# EAGLE library part ZORROII (library Amiga)
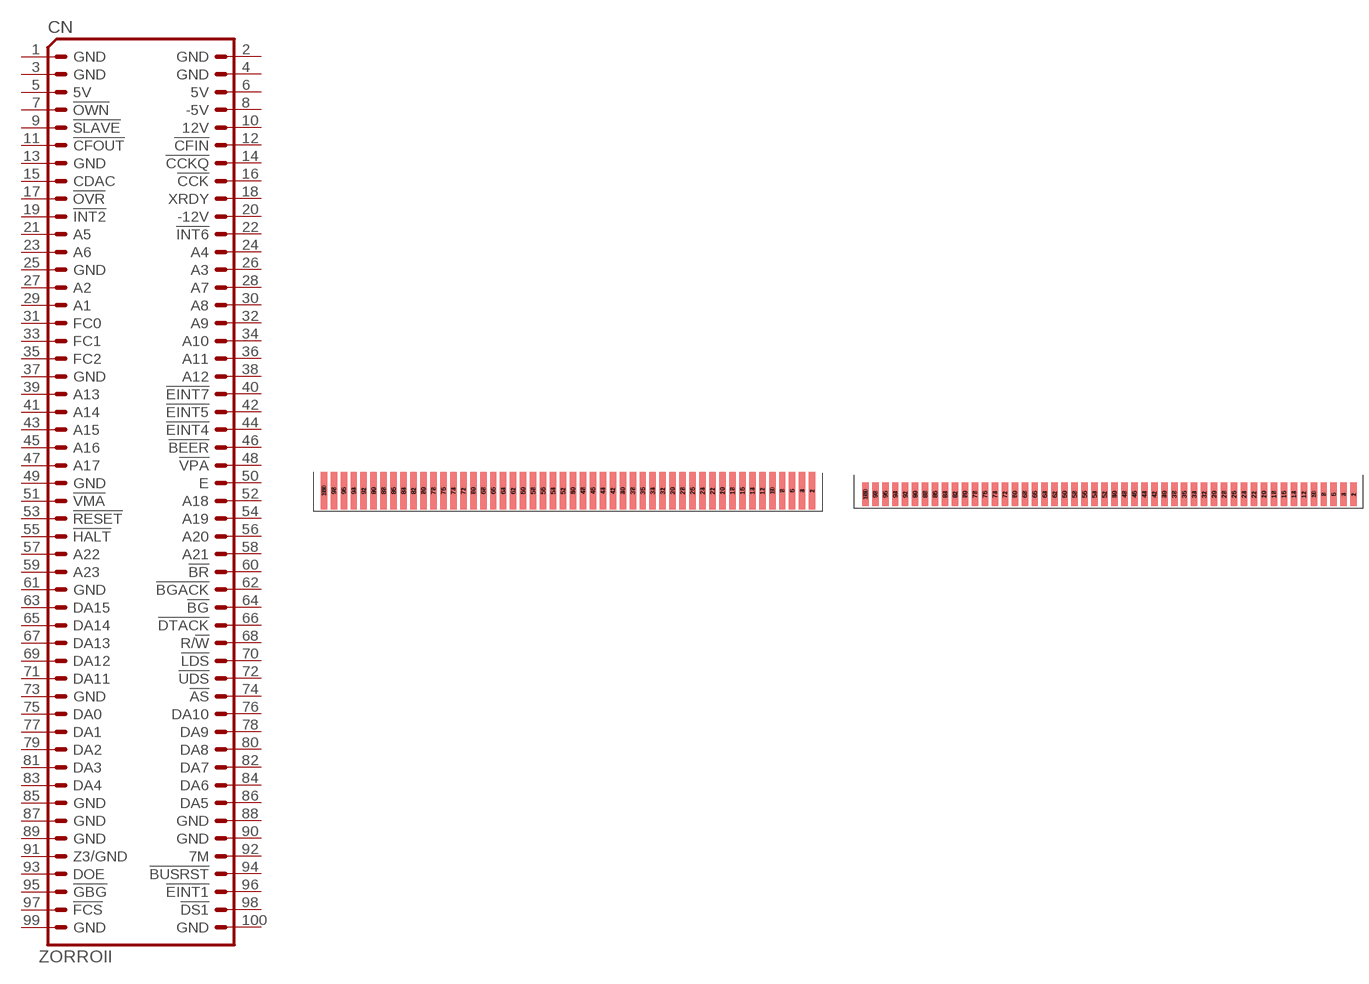
[diagram p12: symbol with the pads of LKONT_50; footprints LKONT_50, LKONT_50_2]

Designator prefix CN

## ZORROII_EDGE_FULL_HEIGHT  [LKONT_50]
1  GND  pas
2  GND  pas
3  GND  pas
4  GND  pas
5  5V  pas
6  5V  pas
7  !OWN!  pas
8  -5V  pas
9  !SLAVE!  pas
10  12V  pas
11  !CFOUT!  pas
12  !CFIN!  pas
13  GND  pas
14  !CCKQ!  pas
15  CDAC  pas
16  !CCK!  pas
17  !OVR!  pas
18  XRDY  pas
19  !INT2!  pas
20  -12V  pas
21  A5  pas
22  !INT6!  pas
23  A6  pas
24  A4  pas
25  GND  pas
26  A3  pas
27  A2  pas
28  A7  pas
29  A1  pas
30  A8  pas
31  FC0  pas
32  A9  pas
33  FC1  pas
34  A10  pas
35  FC2  pas
36  A11  pas
37  GND  pas
38  A12  pas
39  A13  pas
40  !EINT7!  pas
41  A14  pas
42  !EINT5!  pas
43  A15  pas
44  !EINT4!  pas
45  A16  pas
46  !BEER!  pas
47  A17  pas
48  !VPA!  pas
49  GND  pas
50  E  pas
51  !VMA!  pas
52  A18  pas
53  !RESET!  pas
54  A19  pas
55  !HALT!  pas
56  A20  pas
57  A22  pas
58  A21  pas
59  A23  pas
60  !BR!  pas
61  GND  pas
62  !BGACK!  pas
63  DA15  pas
64  !BG!  pas
65  DA14  pas
66  !DTACK!  pas
67  DA13  pas
68  R/!W!  pas
69  DA12  pas
70  !LDS!  pas
71  DA11  pas
72  !UDS!  pas
73  GND  pas
74  !AS!  pas
75  DA0  pas
76  DA10  pas
77  DA1  pas
78  DA9  pas
79  DA2  pas
80  DA8  pas
81  DA3  pas
82  DA7  pas
83  DA4  pas
84  DA6  pas
85  GND  pas
86  DA5  pas
87  GND  pas
88  GND  pas
89  GND  pas
90  GND  pas
91  Z3/GND  pas
92  7M  pas
93  DOE  pas
94  !BUSRST!  pas
95  !GBG!  pas
96  !EINT1!  pas
97  !FCS!  pas
98  !DS1!  pas
99  GND  pas
100  GND  pas

## ZORROII_EDGE_SMALL_HEIGHT  [LKONT_50_2]
Pads as for LKONT_50

## ZORROII_SLOT  [SLOT_100]
Pads as for LKONT_50

## ZORROII_SLOT_SMALL_HOLES  [SLOT_100_S]
Pads as for LKONT_50

## ZORROII_EDGE_ROUND_CONTACTS  [LKONT_50_R]
Pads as for LKONT_50

## ZORROII_EDGE_WITH_OUTLINE  [ZORRO]
Pads as for LKONT_50

## Footprint LKONT_50 (pad centres in mm)
smd 1.65 x 9.5 bottom: 1 127,5.334; 3 124.46,5.334; 5 121.92,5.334; 7 119.38,5.334; 9 116.84,5.334; 11 114.3,5.334; 13 111.76,5.334; 15 109.22,5.334; 17 106.68,5.334; 19 104.14,5.334; 21 101.6,5.334; 23 99.06,5.334; 25 96.52,5.334; 27 93.98,5.334; 29 91.44,5.334; 31 88.9,5.334; 33 86.36,5.334; 35 83.82,5.334; 37 81.28,5.334; 39 78.74,5.334; 41 76.2,5.334; 43 73.66,5.334; 45 71.12,5.334; 47 68.58,5.334; 49 66.04,5.334; 51 63.5,5.334; 53 60.96,5.334; 55 58.42,5.334; 57 55.88,5.334; 59 53.34,5.334; 61 50.8,5.334; 63 48.26,5.334; 65 45.72,5.334; 67 43.18,5.334; 69 40.64,5.334; 71 38.1,5.334; 73 35.56,5.334; 75 33.02,5.334; 77 30.48,5.334; 79 27.94,5.334; 81 25.4,5.334; 83 22.86,5.334; 85 20.32,5.334; 87 17.78,5.334; 89 15.24,5.334; 91 12.7,5.334; 93 10.16,5.334; 95 7.62,5.334; 97 5.08,5.334; 99 2.54,5.334
smd 1.65 x 9.5: 2 127,5.334; 4 124.46,5.334; 6 121.92,5.334; 8 119.38,5.334; 10 116.84,5.334; 12 114.3,5.334; 14 111.76,5.334; 16 109.22,5.334; 18 106.68,5.334; 20 104.14,5.334; 22 101.6,5.334; 24 99.06,5.334; 26 96.52,5.334; 28 93.98,5.334; 30 91.44,5.334; 32 88.9,5.334; 34 86.36,5.334; 36 83.82,5.334; 38 81.28,5.334; 40 78.74,5.334; 42 76.2,5.334; 44 73.66,5.334; 46 71.12,5.334; 48 68.58,5.334; 50 66.04,5.334; 52 63.5,5.334; 54 60.96,5.334; 56 58.42,5.334; 58 55.88,5.334; 60 53.34,5.334; 62 50.8,5.334; 64 48.26,5.334; 66 45.72,5.334; 68 43.18,5.334; 70 40.64,5.334; 72 38.1,5.334; 74 35.56,5.334; 76 33.02,5.334; 78 30.48,5.334; 80 27.94,5.334; 82 25.4,5.334; 84 22.86,5.334; 86 20.32,5.334; 88 17.78,5.334; 90 15.24,5.334; 92 12.7,5.334; 94 10.16,5.334; 96 7.62,5.334; 98 5.08,5.334; 100 2.54,5.334

## Footprint LKONT_50_2 (pad centres in mm)
smd 1.65 x 6 bottom: 1 127,3.619; 3 124.46,3.619; 5 121.92,3.619; 7 119.38,3.619; 9 116.84,3.619; 11 114.3,3.619; 13 111.76,3.619; 15 109.22,3.619; 17 106.68,3.619; 19 104.14,3.619; 21 101.6,3.619; 23 99.06,3.619; 25 96.52,3.619; 27 93.98,3.619; 29 91.44,3.619; 31 88.9,3.619; 33 86.36,3.619; 35 83.82,3.619; 37 81.28,3.619; 39 78.74,3.619; 41 76.2,3.619; 43 73.66,3.619; 45 71.12,3.619; 47 68.58,3.619; 49 66.04,3.619; 51 63.5,3.619; 53 60.96,3.619; 55 58.42,3.619; 57 55.88,3.619; 59 53.34,3.619; 61 50.8,3.619; 63 48.26,3.619; 65 45.72,3.619; 67 43.18,3.619; 69 40.64,3.619; 71 38.1,3.619; 73 35.56,3.619; 75 33.02,3.619; 77 30.48,3.619; 79 27.94,3.619; 81 25.4,3.619; 83 22.86,3.619; 85 20.32,3.619; 87 17.78,3.619; 89 15.24,3.619; 91 12.7,3.619; 93 10.16,3.619; 95 7.62,3.619; 97 5.08,3.619; 99 2.54,3.619
smd 1.65 x 6: 2 127,3.619; 4 124.46,3.619; 6 121.92,3.619; 8 119.38,3.619; 10 116.84,3.619; 12 114.3,3.619; 14 111.76,3.619; 16 109.22,3.619; 18 106.68,3.619; 20 104.14,3.619; 22 101.6,3.619; 24 99.06,3.619; 26 96.52,3.619; 28 93.98,3.619; 30 91.44,3.619; 32 88.9,3.619; 34 86.36,3.619; 36 83.82,3.619; 38 81.28,3.619; 40 78.74,3.619; 42 76.2,3.619; 44 73.66,3.619; 46 71.12,3.619; 48 68.58,3.619; 50 66.04,3.619; 52 63.5,3.619; 54 60.96,3.619; 56 58.42,3.619; 58 55.88,3.619; 60 53.34,3.619; 62 50.8,3.619; 64 48.26,3.619; 66 45.72,3.619; 68 43.18,3.619; 70 40.64,3.619; 72 38.1,3.619; 74 35.56,3.619; 76 33.02,3.619; 78 30.48,3.619; 80 27.94,3.619; 82 25.4,3.619; 84 22.86,3.619; 86 20.32,3.619; 88 17.78,3.619; 90 15.24,3.619; 92 12.7,3.619; 94 10.16,3.619; 96 7.62,3.619; 98 5.08,3.619; 100 2.54,3.619

## Footprint SLOT_100 (pad centres in mm)
drill 0.9 pad 1.5: 1 -59.69,-2.54
drill 0.9 pad 1.5 octagon: 2 -59.69,2.54; 3 -57.15,-2.54; 4 -57.15,2.54; 5 -54.61,-2.54; 6 -54.61,2.54; 7 -52.07,-2.54; 8 -52.07,2.54; 9 -49.53,-2.54; 10 -49.53,2.54; 11 -46.99,-2.54; 12 -46.99,2.54; 13 -44.45,-2.54; 14 -44.45,2.54; 15 -41.91,-2.54; 16 -41.91,2.54; 17 -39.37,-2.54; 18 -39.37,2.54; 19 -36.83,-2.54; 20 -36.83,2.54; 21 -34.29,-2.54; 22 -34.29,2.54; 23 -31.75,-2.54; 24 -31.75,2.54; 25 -29.21,-2.54; 26 -29.21,2.54; 27 -26.67,-2.54; 28 -26.67,2.54; 29 -24.13,-2.54; 30 -24.13,2.54; 31 -21.59,-2.54; 32 -21.59,2.54; 33 -19.05,-2.54; 34 -19.05,2.54; 35 -16.51,-2.54; 36 -16.51,2.54; 37 -13.97,-2.54; 38 -13.97,2.54; 39 -11.43,-2.54; 40 -11.43,2.54; 41 -8.89,-2.54; 42 -8.89,2.54; 43 -6.35,-2.54; 44 -6.35,2.54; 45 -3.81,-2.54; 46 -3.81,2.54; 47 -1.27,-2.54; 48 -1.27,2.54; 49 1.27,-2.54; 50 1.27,2.54; 51 3.81,-2.54; 52 3.81,2.54; 53 6.35,-2.54; 54 6.35,2.54; 55 8.89,-2.54; 56 8.89,2.54; 57 11.43,-2.54; 58 11.43,2.54; 59 13.97,-2.54; 60 13.97,2.54; 61 16.51,-2.54; 62 16.51,2.54; 63 19.05,-2.54; 64 19.05,2.54; 65 21.59,-2.54; 66 21.59,2.54; 67 24.13,-2.54; 68 24.13,2.54; 69 26.67,-2.54; 70 26.67,2.54; 71 29.21,-2.54; 72 29.21,2.54; 73 31.75,-2.54; 74 31.75,2.54; 75 34.29,-2.54; 76 34.29,2.54; 77 36.83,-2.54; 78 36.83,2.54; 79 39.37,-2.54; 80 39.37,2.54; 81 41.91,-2.54; 82 41.91,2.54; 83 44.45,-2.54; 84 44.45,2.54; 85 46.99,-2.54; 86 46.99,2.54; 87 49.53,-2.54; 88 49.53,2.54; 89 52.07,-2.54; 90 52.07,2.54; 91 54.61,-2.54; 92 54.61,2.54; 93 57.15,-2.54; 94 57.15,2.54; 95 59.69,-2.54; 96 59.69,2.54; 97 62.23,-2.54; 98 62.23,2.54; 99 64.77,-2.54; 100 64.77,2.54

## Footprint SLOT_100_S (pad centres in mm)
drill 0.9 pad 1.397: 1 -60.96,-2.54
drill 0.9 pad 1.397 octagon: 2 -60.96,2.54; 3 -58.42,-2.54; 4 -58.42,2.54; 5 -55.88,-2.54; 6 -55.88,2.54; 7 -53.34,-2.54; 8 -53.34,2.54; 9 -50.8,-2.54; 10 -50.8,2.54; 11 -48.26,-2.54; 12 -48.26,2.54; 13 -45.72,-2.54; 14 -45.72,2.54; 15 -43.18,-2.54; 16 -43.18,2.54; 17 -40.64,-2.54; 18 -40.64,2.54; 19 -38.1,-2.54; 20 -38.1,2.54; 21 -35.56,-2.54; 22 -35.56,2.54; 23 -33.02,-2.54; 24 -33.02,2.54; 25 -30.48,-2.54; 26 -30.48,2.54; 27 -27.94,-2.54; 28 -27.94,2.54; 29 -25.4,-2.54; 30 -25.4,2.54; 31 -22.86,-2.54; 32 -22.86,2.54; 33 -20.32,-2.54; 34 -20.32,2.54; 35 -17.78,-2.54; 36 -17.78,2.54; 37 -15.24,-2.54; 38 -15.24,2.54; 39 -12.7,-2.54; 40 -12.7,2.54; 41 -10.16,-2.54; 42 -10.16,2.54; 43 -7.62,-2.54; 44 -7.62,2.54; 45 -5.08,-2.54; 46 -5.08,2.54; 47 -2.54,-2.54; 48 -2.54,2.54; 49 0,-2.54; 50 0,2.54; 51 2.54,-2.54; 52 2.54,2.54; 53 5.08,-2.54; 54 5.08,2.54; 55 7.62,-2.54; 56 7.62,2.54; 57 10.16,-2.54; 58 10.16,2.54; 59 12.7,-2.54; 60 12.7,2.54; 61 15.24,-2.54; 62 15.24,2.54; 63 17.78,-2.54; 64 17.78,2.54; 65 20.32,-2.54; 66 20.32,2.54; 67 22.86,-2.54; 68 22.86,2.54; 69 25.4,-2.54; 70 25.4,2.54; 71 27.94,-2.54; 72 27.94,2.54; 73 30.48,-2.54; 74 30.48,2.54; 75 33.02,-2.54; 76 33.02,2.54; 77 35.56,-2.54; 78 35.56,2.54; 79 38.1,-2.54; 80 38.1,2.54; 81 40.64,-2.54; 82 40.64,2.54; 83 43.18,-2.54; 84 43.18,2.54; 85 45.72,-2.54; 86 45.72,2.54; 87 48.26,-2.54; 88 48.26,2.54; 89 50.8,-2.54; 90 50.8,2.54; 91 53.34,-2.54; 92 53.34,2.54; 93 55.88,-2.54; 94 55.88,2.54; 95 58.42,-2.54; 96 58.42,2.54; 97 60.96,-2.54; 98 60.96,2.54; 99 63.5,-2.54; 100 63.5,2.54

## Footprint LKONT_50_R (pad centres in mm)
smd 1.27 x 7.62 bottom: 1 64.77,0; 3 62.23,0; 5 59.69,0; 7 57.15,0; 9 54.61,0; 11 52.07,0; 13 49.53,0; 15 46.99,0; 17 44.45,0; 19 41.91,0; 21 39.37,0; 23 36.83,0; 25 34.29,0; 27 31.75,0; 29 29.21,0; 31 26.67,0; 33 24.13,0; 35 21.59,0; 37 19.05,0; 39 16.51,0; 41 13.97,0; 43 11.43,0; 45 8.89,0; 47 6.35,0; 49 3.81,0; 51 1.27,0; 53 -1.27,0; 55 -3.81,0; 57 -6.35,0; 59 -8.89,0; 61 -11.43,0; 63 -13.97,0; 65 -16.51,0; 67 -19.05,0; 69 -21.59,0; 71 -24.13,0; 73 -26.67,0; 75 -29.21,0; 77 -31.75,0; 79 -34.29,0; 81 -36.83,0; 83 -39.37,0; 85 -41.91,0; 87 -44.45,0; 89 -46.99,0; 91 -49.53,0; 93 -52.07,0; 95 -54.61,0; 97 -57.15,0; 99 -59.69,0
smd 1.27 x 7.62: 2 64.77,0; 4 62.23,0; 6 59.69,0; 8 57.15,0; 10 54.61,0; 12 52.07,0; 14 49.53,0; 16 46.99,0; 18 44.45,0; 20 41.91,0; 22 39.37,0; 24 36.83,0; 26 34.29,0; 28 31.75,0; 30 29.21,0; 32 26.67,0; 34 24.13,0; 36 21.59,0; 38 19.05,0; 40 16.51,0; 42 13.97,0; 44 11.43,0; 46 8.89,0; 48 6.35,0; 50 3.81,0; 52 1.27,0; 54 -1.27,0; 56 -3.81,0; 58 -6.35,0; 60 -8.89,0; 62 -11.43,0; 64 -13.97,0; 66 -16.51,0; 68 -19.05,0; 70 -21.59,0; 72 -24.13,0; 74 -26.67,0; 76 -29.21,0; 78 -31.75,0; 80 -34.29,0; 82 -36.83,0; 84 -39.37,0; 86 -41.91,0; 88 -44.45,0; 90 -46.99,0; 92 -49.53,0; 94 -52.07,0; 96 -54.61,0; 98 -57.15,0; 100 -59.69,0

## Footprint ZORRO (pad centres in mm)
ZORRO PIC small Plug-In Card for the Amiga Zorro bus
smd 1.524 x 6.477 bottom: 1 130.625,-3.175; 3 128.085,-3.175; 5 125.545,-3.175; 7 123.005,-3.175; 9 120.465,-3.175; 11 117.925,-3.175; 13 115.385,-3.175; 15 112.845,-3.175; 17 110.305,-3.175; 19 107.765,-3.175; 21 105.225,-3.175; 23 102.685,-3.175; 25 100.145,-3.175; 27 97.605,-3.175; 29 95.065,-3.175; 31 92.525,-3.175; 33 89.985,-3.175; 35 87.445,-3.175; 37 84.905,-3.175; 39 82.365,-3.175; 41 79.825,-3.175; 43 77.285,-3.175; 45 74.745,-3.175; 47 72.205,-3.175; 49 69.665,-3.175; 51 67.125,-3.175; 53 64.585,-3.175; 55 62.045,-3.175; 57 59.505,-3.175; 59 56.965,-3.175; 61 54.425,-3.175; 63 51.885,-3.175; 65 49.345,-3.175; 67 46.805,-3.175; 69 44.265,-3.175; 71 41.725,-3.175; 73 39.185,-3.175; 75 36.645,-3.175; 77 34.105,-3.175; 79 31.565,-3.175; 81 29.025,-3.175; 83 26.485,-3.175; 85 23.945,-3.175; 87 21.405,-3.175; 89 18.865,-3.175; 91 16.325,-3.175; 93 13.785,-3.175; 95 11.245,-3.175; 97 8.705,-3.175; 99 6.165,-3.175
smd 1.524 x 6.477: 2 130.625,-3.175; 4 128.085,-3.175; 6 125.545,-3.175; 8 123.005,-3.175; 10 120.465,-3.175; 12 117.925,-3.175; 14 115.385,-3.175; 16 112.845,-3.175; 18 110.305,-3.175; 20 107.765,-3.175; 22 105.225,-3.175; 24 102.685,-3.175; 26 100.145,-3.175; 28 97.605,-3.175; 30 95.065,-3.175; 32 92.525,-3.175; 34 89.985,-3.175; 36 87.445,-3.175; 38 84.905,-3.175; 40 82.365,-3.175; 42 79.825,-3.175; 44 77.285,-3.175; 46 74.745,-3.175; 48 72.205,-3.175; 50 69.665,-3.175; 52 67.125,-3.175; 54 64.585,-3.175; 56 62.045,-3.175; 58 59.505,-3.175; 60 56.965,-3.175; 62 54.425,-3.175; 64 51.885,-3.175; 66 49.345,-3.175; 68 46.805,-3.175; 70 44.265,-3.175; 72 41.725,-3.175; 74 39.185,-3.175; 76 36.645,-3.175; 78 34.105,-3.175; 80 31.565,-3.175; 82 29.025,-3.175; 84 26.485,-3.175; 86 23.945,-3.175; 88 21.405,-3.175; 90 18.865,-3.175; 92 16.325,-3.175; 94 13.785,-3.175; 96 11.245,-3.175; 98 8.705,-3.175; 100 6.165,-3.175